# Altium schematic symbol library lab1_kapustin_usb_spi.SCHLIB: 20 symbols
Pins are listed as number, name and electrical type; pins without a type are passive.

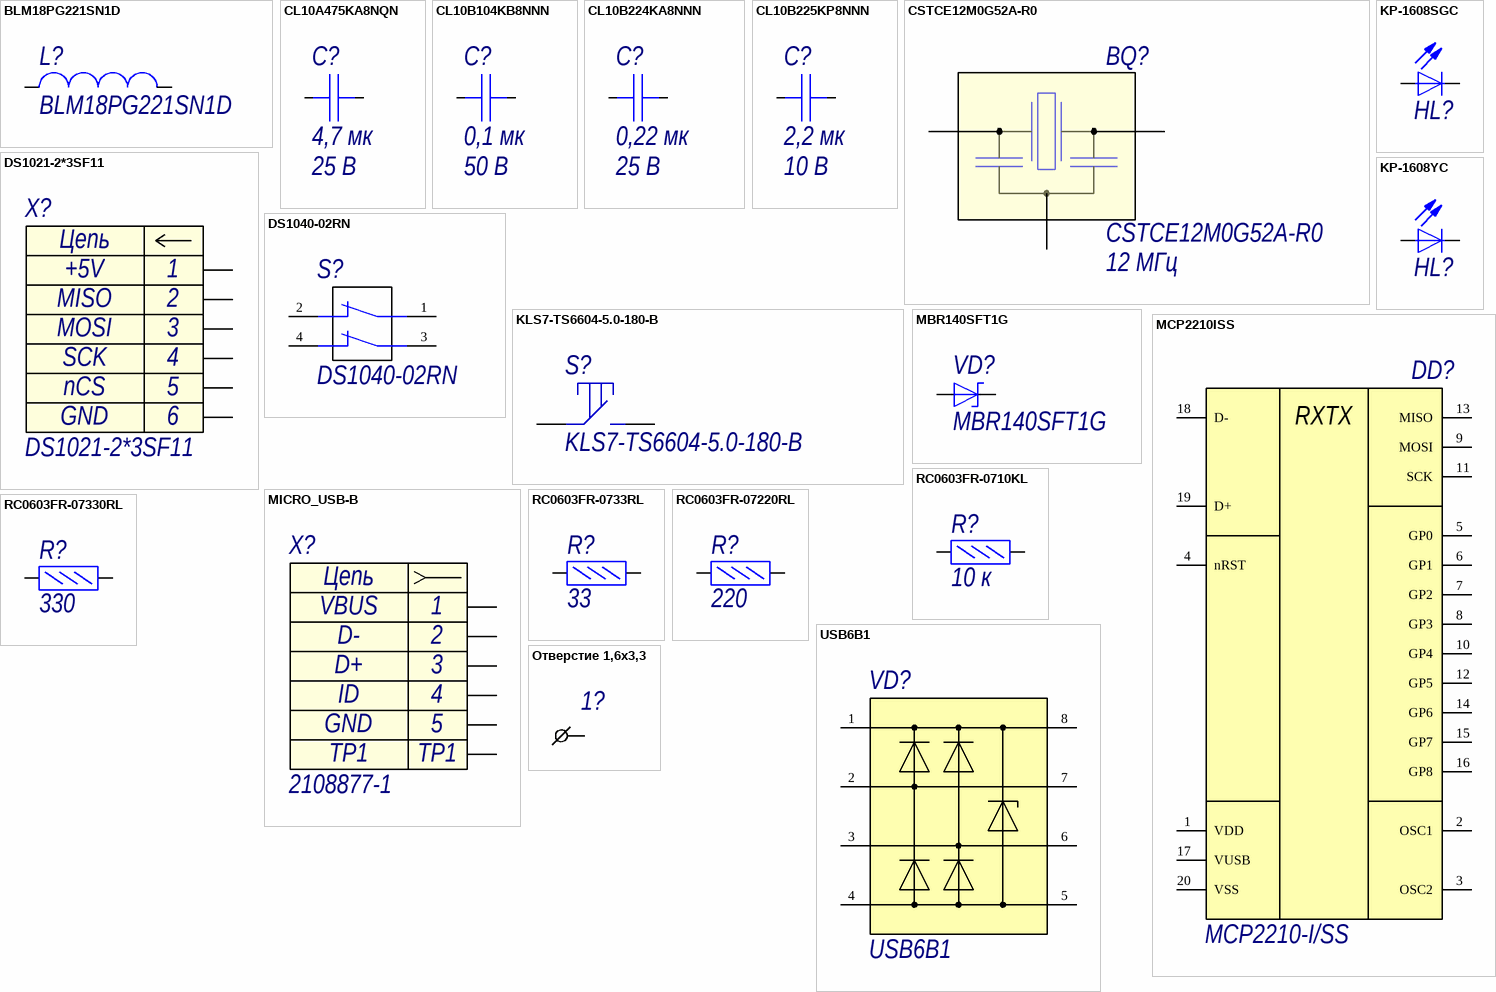
[diagram p0: symbols BLM18PG221SN1D to Отверстие 1,6x3,3]

## BLM18PG221SN1D
designator L?
id: ind0014; Фамилия: Капустин; Описание: Ферритовая бусина 220 Ом @ 100МГц; Производитель: Murata; Номинал: 220 Ом; Индуктивность: 220 Ом @ 100 МГц; Отклонение: ±25%; Сопротивление обмотки: 0,1 Ом; Максимальный ток: 1,4 А; Добротность: не указана; Температура окружающей среды (корпуса), мин#: -55 °C; Температура окружающей среды (корпуса), макс#: +125 °C; Корпус: 0603; ClassName: *; Наименование: BLM18PG221SN1D; HelpURL: https://www.murata.com/en-eu/products/productdetail?partno=BLM18PG221SN1%23
footprint L0603
pins: 1, 2

## CL10A475KA8NQN
designator C?, comment 4,7 мк  Напряжение: 25 В
Конденсатор; id: c0009; Фамилия: Черемный; Описание: Конденсатор керамический 0603 4,7 мкФ 25 В ±10 % X5R; Наименование: CL10A475KA8NQN; Производитель: Samsung; Корпус: 0603; Отклонение: ±10 %; ТКЕ: X5R; Примечание: В наименовании убрана последняя буква, обозначающая упаковку; ClassName: *; Номинал: 4,7 мк; HelpURL: http://weblib.samsungsem.com/mlcc/mlcc-ec-data-sheet.do?partNumber=CL10A475KA8NQN
footprint C0603
pins: 1, 2

## CL10B104KB8NNN
designator C?, comment 0,1 мк  Напряжение: 50 В
Конденсатор; id: c0007; Фамилия: Черемный; Описание: Конденсатор керамический 0603 0,1 мкФ 50 В ±10 % X7R; Наименование: CL10B104KB8NNN; Производитель: Samsung; Корпус: 0603; Отклонение: ±10 %; ТКЕ: X7R; Примечание: В наименовании убрана последняя буква, обозначающая упаковку; ClassName: *; Номинал: 0,1 мк; HelpURL: http://weblib.samsungsem.com/mlcc/mlcc-ec-data-sheet.do?partNumber=CL10B104KB8NNN
footprint C0603
pins: 1, 2

## CL10B224KA8NNN
designator C?, comment 0,22 мк  Напряжение: 25 В
Конденсатор; id: c0027; Фамилия: Черемный; Описание: Конденсатор керамический 0603 0,22 мкФ 25 В ±10 % X7R; Наименование: CL10B224KA8NNN; Производитель: Samsung; Корпус: 0603; Отклонение: ±10 %; ТКЕ: X7R; Примечание: В наименовании убрана последняя буква, обозначающая упаковку; ClassName: *; Номинал: 0,22 мк; HelpURL: http://weblib.samsungsem.com/mlcc/mlcc-ec-data-sheet.do?partNumber=CL10B224KA8NNN
footprint C0603
pins: 1, 2

## CL10B225KP8NNN
designator C?, comment 2,2 мк  Напряжение: 10 В
Конденсатор; id: c0020; Фамилия: Черемный; Описание: Конденсатор керамический 0603 2,2 мкФ 10 В ±10 % X7R; Наименование: CL10B225KP8NNN; Производитель: Samsung; Корпус: 0603; Отклонение: ±10 %; ТКЕ: X7R; Примечание: В наименовании убрана последняя буква, обозначающая упаковку; ClassName: *; Номинал: 2,2 мк; HelpURL: http://weblib.samsungsem.com/mlcc/mlcc-ec-data-sheet.do?partNumber=CL10B225KP8NNN
footprint C0603
pins: 1, 2

## CSTCE12M0G52A-R0
designator BQ?  Частота: 12 МГц
id: q0001; Фамилия: Капустин; Описание: Кварцевый резонатор 12 МГц со встроенными нагрузочными конденсаторами; Производитель: Murata; Точность: ±0,5 %; Промывка: Разрешена; Температура окружающей среды (корпуса), мин#: -40 °C; Температура окружающей среды (корпуса), макс#: +125 °C; Корпус: 3,2*1,3*0,7; Наименование: CSTCE12M0G52A-R0; HelpURL: https://www.murata.com/en-us/api/pdfdownloadapi?cate=&partno=CSTCE12M0G52A-R0
footprint CSTCE-3_320x130x40
pins: 1, 2, 3

## DS1021-2*3SF11
designator X?
Contact_01: +5V; Contact_02: MISO; Contact_03: MOSI; Contact_04: SCK; Contact_05: nCS; Contact_06: GND; id: cn0076; Фамилия: Капустин; Описание: PLS 6-ти контактный прямой двухрядный (2,54 мм); Производитель: Connfly Electronic Co. LTD; Количество контактов: 6; Цвет: Черный; Ток на контакт: 3 А; Напряжение: 250 В; Шаг: 2,54 мм; Семейство: PLS; Тип вывода: Прямой; Температура окружающей среды (корпуса), мин#: -40 °C; Температура окружающей среды (корпуса), макс#: +105 °C; Альтернатива: не указана; Ответная часть: DS1023-2*3S22; Контакт: отсутствует; ClassName: +5V; Наименование: DS1021-2*3SF11; HelpURL: http://www.connfly.com/userfiles/image/UpLoadFile/File/2015/1/29/DS1021.pdf
footprint PLS-2,54-2X3-THT-V
pins: 1, 2, 3, 4, 5, 6
text: Цепь

## DS1040-02RN
designator S?
id: sw0002; Описание: 2-х позиционный движковый переключатель; Производитель: Connfly Electronic Co. LTD; Количество контактов: 2; Ток нагрузки: 100 мА @ 24 В; Сопротивление контакта: 100 мОм; Промывка: Запрещена; Температура окружающей среды (корпуса), мин#: -40 °C; Температура окружающей среды (корпуса), макс#: +105 °C; Корпус: 6,54х9,9х5,5; Капустин: Капустин; Наименование: DS1040-02RN; HelpURL: http://www.connfly.com/userfiles/image/UpLoadFile/File/2017/1/20/DS1040-N.pdf
footprint DS1040-02RN
pins: 1, 2, 3, 4

## KLS7-TS6604-5.0-180-B
designator S?
id: sw0003; Капустин: Черемный; Описание: Тактовая кнопка поверхностного монтажа; Производитель: KLS; Количество контактов: 4; Ток нагрузки: 50 мА @ 12 В; Сопротивление контакта: 50 мОм; Промывка: Не указано (запрещена); Температура окружающей среды (корпуса), мин#: -20 °C; Температура окружающей среды (корпуса), макс#: +70 °C; Корпус: 6х6х3,5; Наименование: KLS7-TS6604-5.0-180-B; HelpURL: http://www.klsele.com/admin/product_upload/20120515130956KLS7-TS6604.pdf
footprint KLS7-TS6604_500
pins: 1, 2

## KP-1608SGC
designator HL?  (value not drawn)
id: led0004; Фамилия: Капустин; Описание: Светодиод зеленый SMD 0603; Производитель: Kingbright; Цвет: Зеленый; Максимальное обратное напряжение: 5 В; Прямой ток: 20 мА; Максимальное прямое напряжение: 2,5 В; Максимальный обратный ток: 11 мкА; Максимальный импульсный прямой ток: 140 мА; Температура окружающей среды (корпуса), мин#: -40 °C; Температура окружающей среды (корпуса), макс#: +85 °C; Корпус: D0603; Примечание: Не найти документацию на свйте производителя; ClassName: *; Наименование: KP-1608SGC; HelpURL: http://www.farnell.com/datasheets/2045827.pdf?_ga=2.72147859.1066726363.1573580702-223521920.1573064505
footprint D0603
pins: 1 A, 2 K

## KP-1608YC
designator HL?  (value not drawn)
id: led0003; Фамилия: Капустин; Описание: Светодиод желтый SMD 0603; Производитель: Kingbright; Цвет: Желтый; Максимальное обратное напряжение: 5 В; Прямой ток: 20 мА; Максимальное прямое напряжение: 2,5 В; Максимальный обратный ток: 10 мкА; Максимальный импульсный прямой ток: 140 мА; Температура окружающей среды (корпуса), мин#: -40 °C; Температура окружающей среды (корпуса), макс#: +85 °C; Корпус: D0603; Примечание: Не найти документацию на свйте производителя; ClassName: *; Наименование: KP-1608YC; HelpURL: http://www.farnell.com/datasheets/2045948.pdf?_ga=2.105218179.1066726363.1573580702-223521920.1573064505
footprint D0603
pins: 1 A, 2 K

## MBR140SFT1G
designator VD?
id: vd0004; Фамилия: Капустин; Описание: Диод Шоттки 40 В 1 А; Производитель: ON Semiconductor; Максимальное обратное напряжение: 40 В; Максимальный прямой ток: 1 А; Максимальное прямое напряжение: 0,88 В; Максимальный обратный ток: 10 мА @ Ta = 125°C; Максимальный импульсный прямой ток: 30 А; Температура окружающей среды (корпуса), мин#: -55 °C; Температура окружающей среды (корпуса), макс#: +125 °C; Корпус: SOD-123; ClassName: *; Наименование: MBR140SFT1G; HelpURL: https://www.onsemi.com/pub/Collateral/MBR140SFT1-D.PDF
footprint SOD-123FL_290X180X98
pins: 1 A, 2 K

## MCP2210ISS
designator DD?, comment MCP2210-I/SS
Наименование: MCP2210-I/SS
footprint SSOP-20_780x720x200 (SSOP-20, 7,8mm x 7,2mm, pitch 0,65mm)
pins: 1 VDD, 2 OSC1, 3 OSC2, 4 nRST, 5 GP0, 6 GP1, 7 GP2, 8 GP3, 9 MOSI, 10 GP4, 11 SCK, 12 GP5, 13 MISO, 14 GP6, 15 GP7, 16 GP8, 17 VUSB, 18 D-, 19 D+, 20 VSS
text: RXTX

## MICRO_USB-B
designator X?, comment 2108877-1
Contact_1: VBUS; Contact_2: D-; Contact_3: D+; Contact_4: ID; Contact_5: GND; Наименование: 2108877-1
footprint 2108877-1 (Micro USB-B, Flanged)
pins: 1, 2, 3, 4, 5, TP1
text: Цепь

## RC0603FR-0710KL
designator R?, comment 10 к
Резистор 0,063Вт; id: r0006; Фамилия: Капустин; Описание: Резистор чип 0603 10 кОм 0,1 Вт ±1 %; Наименование: RC0603FR-0710KL; Производитель: YAGEO; Отклонение: ±1 %; Напряжение: 75 В; Температурный коэффициент сопротивления: 200 ppm; Температура окружающей среды (корпуса), мин#: -55 °C; Температура окружающей среды (корпуса), макс#: +155 °C; Корпус: 0603; ClassName: *; Номинал: 10 к; HelpURL: https://www.yageo.com/upload/media/product/products/datasheet/rchip/PYu-RC_Group_51_RoHS_L_10.pdf
footprint R0603
pins: 1, 2

## RC0603FR-0733RL
designator R?, comment 33
Резистор 0,063Вт; id: r0214; Фамилия: Капустин; Описание: Резистор чип 0603 33 Ом 0,1 Вт ±1 %; Наименование: RC0603FR-0733RL; Производитель: YAGEO; Отклонение: ±1 %; Напряжение: 75 В; Температурный коэффициент сопротивления: 200 ppm; Температура окружающей среды (корпуса), мин#: -55 °C; Температура окружающей среды (корпуса), макс#: +155 °C; Корпус: 0603; ClassName: *; Номинал: 33; HelpURL: https://www.yageo.com/upload/media/product/products/datasheet/rchip/PYu-RC_Group_51_RoHS_L_10.pdf
footprint R0603
pins: 1, 2

## RC0603FR-07220RL
designator R?, comment 220
Резистор 0,063Вт; id: r0232; Фамилия: Капустин; Описание: Резистор чип 0603 220 Ом 0,1 Вт ±1 %; Наименование: RC0603FR-07220RL; Производитель: YAGEO; Отклонение: ±1 %; Напряжение: 75 В; Температурный коэффициент сопротивления: 200 ppm; Температура окружающей среды (корпуса), мин#: -55 °C; Температура окружающей среды (корпуса), макс#: +155 °C; Корпус: 0603; ClassName: *; Номинал: 220; HelpURL: https://www.yageo.com/upload/media/product/products/datasheet/rchip/PYu-RC_Group_51_RoHS_L_10.pdf
footprint R0603
pins: 1, 2

## RC0603FR-07330RL
designator R?, comment 330
Резистор 0,063Вт; id: r0034; Фамилия: Капустин; Описание: Резистор чип 0603 300 Ом 0,1 Вт ±1 %; Наименование: RC0603FR-07330RL; Производитель: YAGEO; Отклонение: ±1 %; Напряжение: 75 В; Температурный коэффициент сопротивления: 100 ppm; Температура окружающей среды (корпуса), мин#: -55 °C; Температура окружающей среды (корпуса), макс#: +155 °C; Корпус: 0603; ClassName: *; Номинал: 330; HelpURL: https://www.yageo.com/upload/media/product/products/datasheet/rchip/PYu-RC_Group_51_RoHS_L_10.pdf
footprint R0603
pins: 1, 2

## USB6B1
designator VD?
id: asmvd0007; Фамилия: Капустин; Описание: Диодная сборка для защиты USB; Производитель: ST Microelectronics; Температура окружающей среды (корпуса), мин#: -40 °C; Температура окружающей среды (корпуса), макс#: +85 °C; Корпус: SO-8; Наименование: USB6B1; HelpURL: https://www.st.com/resource/en/datasheet/usb6b1.pdf
footprint SO-8
pins: 1, 2, 3, 4, 5, 6, 7, 8

## Отверстие 1,6x3,3
designator 1?, comment MOUNTING_HOLE  (value not drawn)
id: fstn0011; Описание: Отверстие под М1,5; Наименование: Отверстие 1,6x3,3; Диаметр отверстия: 1,6 мм; Параметры металлизации: 3,3 мм
footprint HOLE_1,6X3,3
pins: 1